# Altium integrated library ABX00028.IntLib: 1 symbol
Pins are listed as number, name and electrical type; pins without a type are passive.

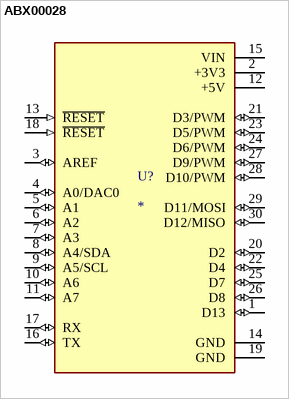
[diagram p0: symbol ABX00028]

## ABX00028
designator U?
Arduinoâ€™s 5V compatible board in the smallest available form factor: 45x18mm!; MP: Arduino Nano Every; Check_prices: https://www.snapeda.com/parts/Arduino%20Nano%20Every/Arduino/view-part/?ref=eda; Value: *; Availability: Not in stock; Price: None; Package: None; SnapEDA_Link: https://www.snapeda.com/parts/Arduino%20Nano%20Every/Arduino/view-part/?ref=snap; MF: Arduino
footprint MODULE_ABX00028
pins: 1 D13 (io), 2 +3V3 (power), 3 AREF (io), 4 A0/DAC0 (io), 5 A1 (io), 6 A2 (io), 7 A3 (io), 8 A4/SDA (io), 9 A5/SCL (io), 10 A6 (io), 11 A7 (io), 12 +5V (power), 13 ~{RESET} (in), 14 GND (power), 15 VIN (power), 16 TX (io), 17 RX (io), 18 ~{RESET} (in), 19 GND (power), 20 D2 (io), 21 D3/PWM (io), 22 D4 (io), 23 D5/PWM (io), 24 D6/PWM (io), 25 D7 (io), 26 D8 (io), 27 D9/PWM (io), 28 D10/PWM (io), 29 D11/MOSI (io), 30 D12/MISO (io)